# Altium schematic symbol library Memory.SchLib: 2 symbols
Pins are listed as number, name and electrical type; pins without a type are passive.

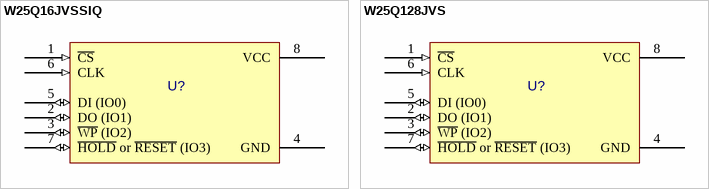
[diagram p0: symbols W25Q16JVSSIQ to W25Q128JVS]

## W25Q16JVSSIQ
designator U?  (value not drawn)
Supplier 1: Digi-Key; Supplier Part Number 1: W25Q16JVSSIQ-ND
footprint W25Q128JVS - SOIC127P790X216-8M (SOIC, 8-Leads, Body 5.28x5.28mm, Pitch 1.27mm, IPC Low Density)
pins: 1 ~{CS} (in), 2 DO (IO1) (io), 3 ~{WP} (IO2) (io), 4 GND, 5 DI (IO0) (io), 6 CLK (in), 7 ~{HOLD} or ~{RESET} (IO3) (io), 8 VCC

## W25Q128JVS
designator U?  (value not drawn)
Supplier 1: Digi-Key; Supplier Part Number 1: W25Q128JVSIMCT-ND
footprint W25Q128JVS - SOIC127P790X216-8M (SOIC, 8-Leads, Body 5.28x5.28mm, Pitch 1.27mm, IPC Low Density)
pins: 1 ~{CS} (in), 2 DO (IO1) (io), 3 ~{WP} (IO2) (io), 4 GND, 5 DI (IO0) (io), 6 CLK (in), 7 ~{HOLD} or ~{RESET} (IO3) (io), 8 VCC